# Altium footprint library HVGD.PcbLib: 10 footprints
Each footprint in its own frame and in the unit in brackets; x right, y up, seen from the top. Pads: shape width x height; smd on the part's side, far side on the other; paste and mask are expansions set on the pad; w line width, h text height; cw(c..) or ccw(c..) is an arc to the next point about the centre after c.
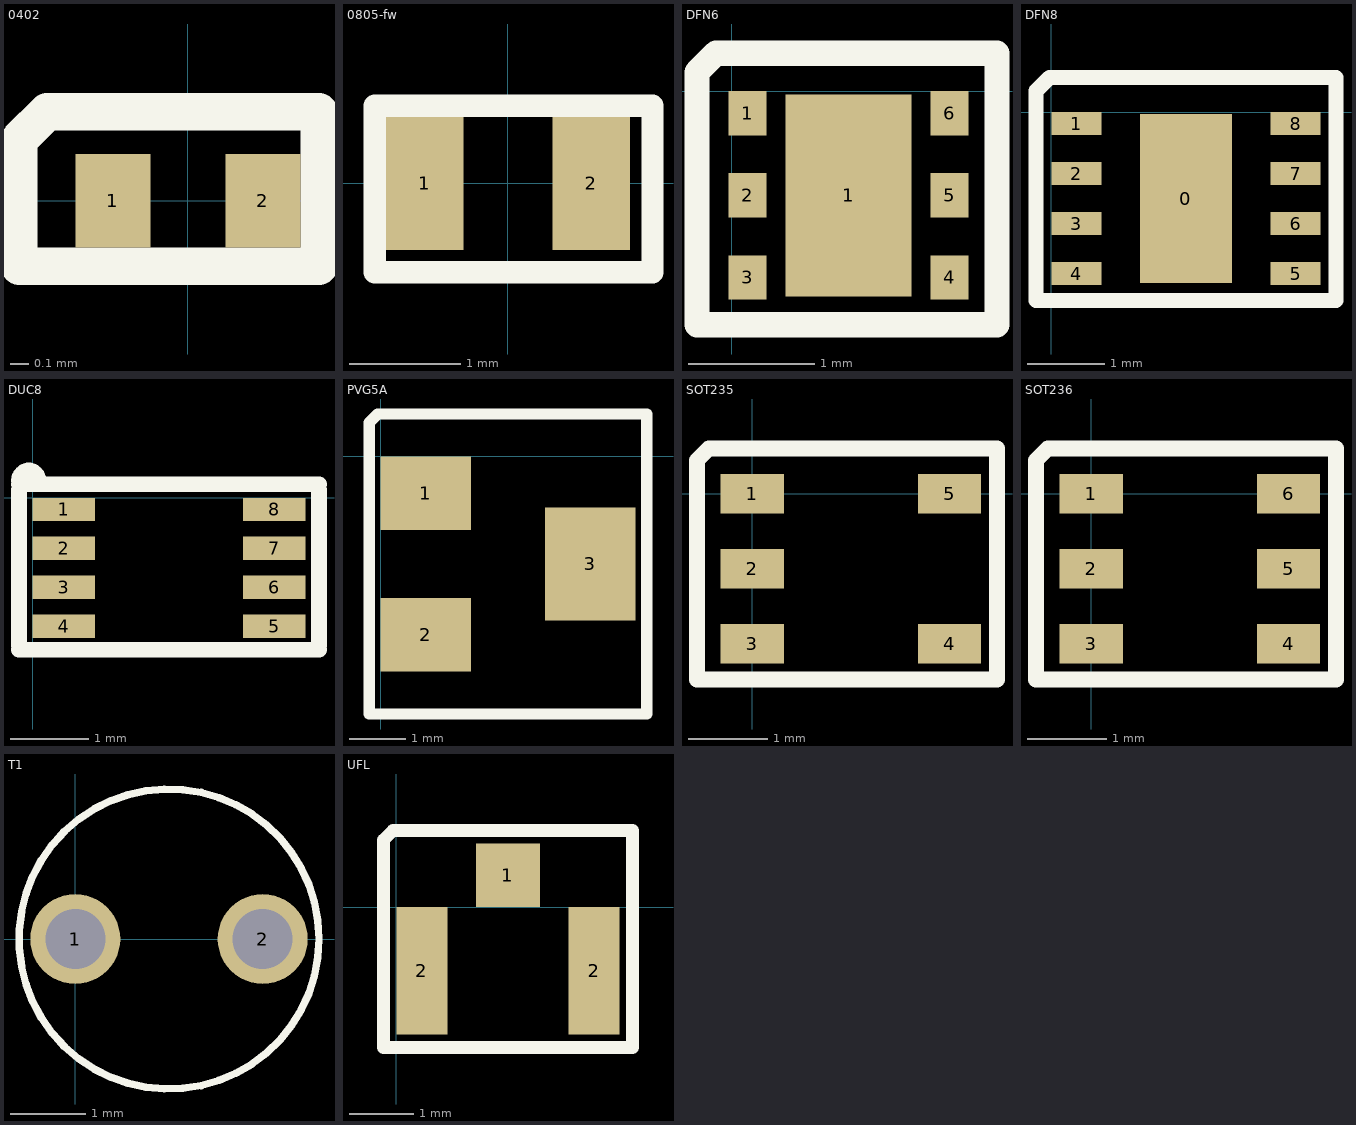
[diagram p0: the footprints below, top view; thin cyan lines are the x and y axes]

## 0402 [mm]
height 0.5
pads (2):
  rect 0.4x0.5 smd mask+0: 1(-0.4,0) 2(0.4,0)
Top Overlay:
  lines w0.2: -0.9,-0.35 -0.9,0.325 -0.75,0.475 0.7,0.475 0.7,-0.35 -0.9,-0.35
3D body "User Library-SMD Ceramic Capacitors_0402 (1005)_BD.STEP": height 0.55, standoff 0, extent -0.5,-0.25 0.5,0.25

## 0805-fw [mm]
height 0.5
pads (2):
  rect 0.7x1.2 smd mask+0: 1(-0.75,0) 2(0.75,0)
Top Overlay:
  lines w0.2: -1.2,-0.8 -1.2,0.7 1.3,0.7 1.3,-0.8 -1.2,-0.8
3D body "CircuitWorks-RESISTOR 0805.STEP": height 1.23, standoff -0.03, extent -1,-0.23 1,0.23

## DFN6 [mm]
pads (7):
  rect 0.3x0.35 smd: 1(0.125,-0.175) 2(0.125,-0.825) 3(0.125,-1.475) 4(1.725,-1.475) 5(1.725,-0.825) 6(1.725,-0.175)
  rect 1x1.6 smd paste+0 mask+0: 1(0.925,-0.825)
Top Overlay:
  lines w0.2: -0.275,-1.85 2.1,-1.85 2.1,0.3 -0.125,0.3 -0.275,0.15 -0.275,-1.85
3D body "User Library-DFN-6-1.STEP": height 0.81, standoff 0.01, extent -0.115,-1.835 1.985,0.165

## DFN8 [mm]
height 0.8
pads (9):
  rect 1.2x2.2 smd: 0(1.75,-1.125)
  rect 0.65x0.3 smd: 1(0.325,-0.15) 2(0.325,-0.8) 3(0.325,-1.45) 4(0.325,-2.1) 5(3.175,-2.1) 6(3.175,-1.45) 7(3.175,-0.8) 8(3.175,-0.15)
Top Overlay:
  lines w0.2: -0.2,-2.45 3.7,-2.45 3.7,0.45 -0.025,0.45 -0.2,0.275 -0.2,-2.45
3D body "User Library-DFN-8-2.STEP": height 0.91, standoff 0.01, extent 0.366,-2.047 3.406,-0.047

## DUC8 [mm]
height 0.9
pads (8):
  rect 0.8x0.3 smd mask+0.07: 1(0.4,-0.15) 2(0.4,-0.65) 3(0.4,-1.15) 4(0.4,-1.65) 5(3.1,-1.65) 6(3.1,-1.15) 7(3.1,-0.65) 8(3.1,-0.15)
Top Overlay:
  lines w0.2: -0.175,-1.95 3.675,-1.95 ; -0.175,-1.9 -0.175,0.1 ; -0.175,0.175 3.675,0.175 ; -0.175,0.225 cw(c-0.05,0.225) 0.075,0.225 ; 3.675,-1.9 3.675,0.1
3D body "User Library-SOP50P310X90-8N[8US8_VSSOP_DCU_MO-187CA].STEP": height 0.91, standoff 0.01, extent 0.075,-1.925 3.275,0.175

## PVG5A [mm] "TRIM POT"
height 5
pads (3):
  rect 1.6x1.3 smd: 1(0.8,-0.65) 2(0.8,-3.15)
  rect 1.6x2 smd: 3(3.7,-1.9)
Top Overlay:
  lines w0.2: -0.2,-4.55 -0.2,0.6 -0.05,0.75 4.7,0.75 4.7,-4.55 -0.2,-4.55
3D body "User Library-TRIMMER_PVG5A.STEP": height 5.61, standoff 0.01, extent 0.275,-4.325 3.975,0.475

## SOT235 [mm]
pads (5):
  rect 0.8x0.5 smd: 1(0,0) 2(0,-0.95) 3(0,-1.9) 4(2.5,-1.9) 5(2.5,0)
Top Overlay:
  lines w0.2: -0.7,-2.35 -0.7,0.425 -0.55,0.575 3.1,0.575 3.1,-2.35 -0.7,-2.35
3D body "User Library-sot235.STEP": height 1.01, standoff 0.01, extent 0.105,-2.445 2.445,0.475

## SOT236 [mm]
pads (6):
  rect 0.8x0.5 smd: 1(0,0) 2(0,-0.95) 3(0,-1.9) 4(2.5,-1.9) 5(2.5,-0.95) 6(2.5,0)
Top Overlay:
  lines w0.2: -0.7,-2.35 -0.7,0.425 -0.55,0.575 3.1,0.575 3.1,-2.35 -0.7,-2.35
3D body "User Library-sot236.STEP": height -0.4, standoff -1.4, extent 0.005,-2.36 2.345,0.56

## T1 [mm] "3mm 5mm r=1.5 w=0.1"
height 5
pads (2):
  round 1.2 hole 0.8: 1(0,0) 2(2.5,0)
Top Overlay:
  circle w0.1: c1.25,0 r2

## UFL [mm]
height 1.2
pads (3):
  rect 1x1 smd: 1(1.75,0.5)
  rect 0.8x2 smd: 2(0.4,-1) 2(3.1,-1)
Top Overlay:
  lines w0.2: -0.2,-2.2 3.7,-2.2 3.7,1.2 -0.05,1.2 -0.2,1.05 -0.2,-2.2